# EAGLE library part MCP1710 (library icarus_sensors)
MCP1710 Ultra-Low Quiescent Current LDO Regulator 2x2mm
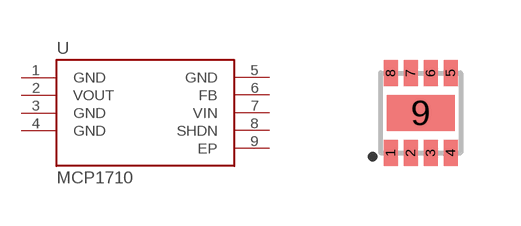
[diagram p10: symbol with the pads of MCP1710; footprint MCP1710]

Designator prefix -

## MCP1710  [MCP1710]
1  GND
2  VOUT
3  GND
4  GND
5  GND
6  FB
7  VIN
8  SHDN
9  EP

## Footprint MCP1710 (pad centres in mm)
MCP1710 Ultra-Low Quiescent Current LDO Regulator 2x2mm
smd 0.35 x 0.65: 1 0,-2; 2 0.5,-2; 3 1,-2; 4 1.5,-2; 5 1.5,0; 6 1,0; 7 0.5,0; 8 0,0
smd 1.7 x 0.9: 9 0.75,-1